# Altium footprint library TQFPM-44.PcbLib: 1 footprints
Each footprint in its own frame and in the unit in brackets; x right, y up, seen from the top. Pads: shape width x height; smd on the part's side, far side on the other; paste and mask are expansions set on the pad; w line width, h text height; cw(c..) or ccw(c..) is an arc to the next point about the centre after c.
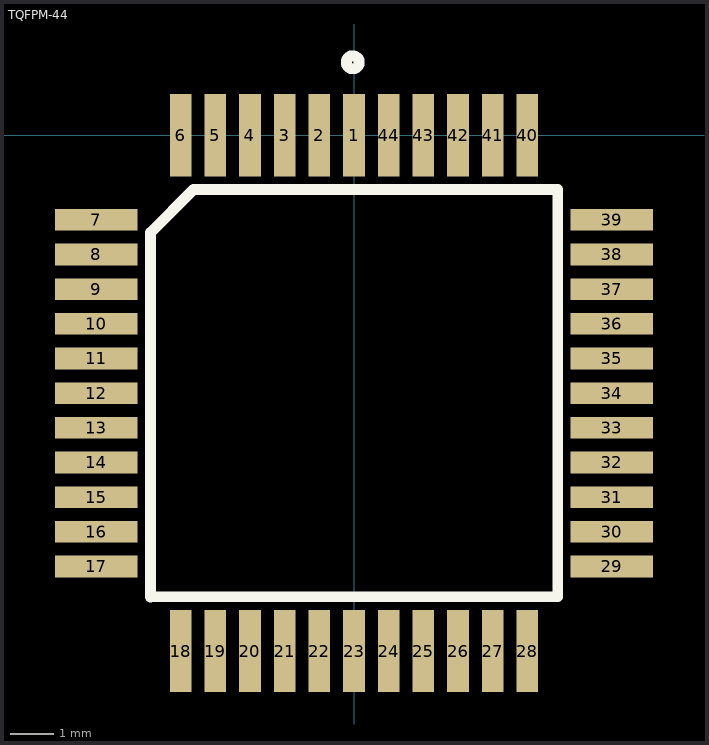
[diagram p0: the footprint, top view; thin cyan lines are the x and y axes]

## TQFPM-44 [mm]
pads (44):
  rect 0.5x1.9 smd: 1(0,0) 2(-0.8,0) 3(-1.6,0) 4(-2.4,0) 5(-3.2,0) 6(-4,0) 18(-4,-11.9) 19(-3.2,-11.9) 20(-2.4,-11.9) 21(-1.6,-11.9) 22(-0.8,-11.9) 23(0,-11.9) 24(0.8,-11.9) 25(1.6,-11.9) 26(2.4,-11.9) 27(3.2,-11.9) 28(4,-11.9) 40(4,0) 41(3.2,0) 42(2.4,0) 43(1.6,0) 44(0.8,0)
  rect 1.9x0.5 smd: 7(-5.95,-1.95) 8(-5.95,-2.75) 9(-5.95,-3.55) 10(-5.95,-4.35) 11(-5.95,-5.15) 12(-5.95,-5.95) 13(-5.95,-6.75) 14(-5.95,-7.55) 15(-5.95,-8.35) 16(-5.95,-9.15) 17(-5.95,-9.95) 29(5.95,-9.95) 30(5.95,-9.15) 31(5.95,-8.35) 32(5.95,-7.55) 33(5.95,-6.75) 34(5.95,-5.95) 35(5.95,-5.15) 36(5.95,-4.35) 37(5.95,-3.55) 38(5.95,-2.75) 39(5.95,-1.95)
TopOverlay:
  circle w0.25: c-0.029,1.682 r0.15
  lines w0.25: -4.7,-10.65 4.7,-10.65 4.7,-1.25
  lines w0.254: -4.7,-10.65 -4.7,-3.525 -4.7,-2.249 -3.701,-1.25 -2.978,-1.25 4.7,-1.25